# Altium footprint library LED_SMD_0805.PcbLib: 1 footprints
Each footprint in its own frame and in the unit in brackets; x right, y up, seen from the top. Pads: shape width x height; smd on the part's side, far side on the other; paste and mask are expansions set on the pad; w line width, h text height; cw(c..) or ccw(c..) is an arc to the next point about the centre after c.
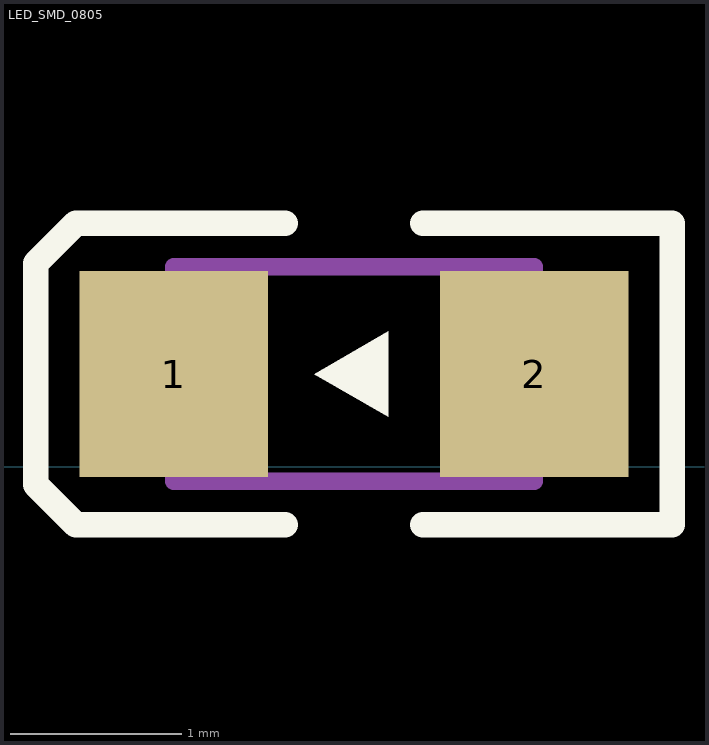
[diagram p0: the footprint, top view; thin cyan lines are the x and y axes]

## LED_SMD_0805 [mm]
pads (2):
  rect 1.1x1.2 smd: 1(-3.767,0.541) 2(-1.667,0.541)
Top Overlay:
  region: -2.95,0.541 -2.517,0.291 -2.517,0.791
  lines w0.15: -3.117,-0.338 -4.338,-0.338 -4.571,-0.105 -4.571,1.187 -4.338,1.42 -3.117,1.42 ; -2.317,-0.338 -0.863,-0.338 -0.863,1.42 -2.317,1.42
Mechanical 13:
  lines w0.1: -3.767,-0.084 -3.767,1.166 -1.667,1.166 -1.667,-0.084 -3.767,-0.084
3D body "WL-SMCW_0805_LED.stp": height 0.7, standoff 0, extent -3.717,-0.084 -1.717,1.166